# EAGLE library part MP1496DJ (library Common-Parts-Library-Eagle)
High-Efficiency, 2A, 16V, 500kHz Synchronous, Step-Down Converter
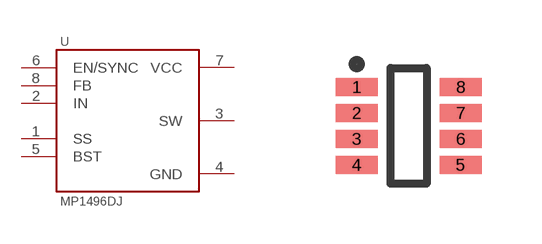
[diagram p36: symbol with the pads of SOT65P280X90-8N; footprint SOT65P280X90-8N]

Designator prefix U

## MP1496DJ (MANUFACTURER: Monolithic Power Systems)  [SOT65P280X90-8N]
1  SS  pas
2  IN  in
3  SW  out
4  GND  pwr
5  BST  pas
6  EN/SYNC  in
7  VCC  pwr
8  FB  in

## Footprint SOT65P280X90-8N (pad centres in mm)
smd 1.05 x 0.45: 1 -1.3,0.975; 2 -1.3,0.325; 3 -1.3,-0.325; 4 -1.3,-0.975; 5 1.3,-0.975; 6 1.3,-0.325; 7 1.3,0.325; 8 1.3,0.975